# EAGLE library part DECA (library deca)
Deca board from Intel
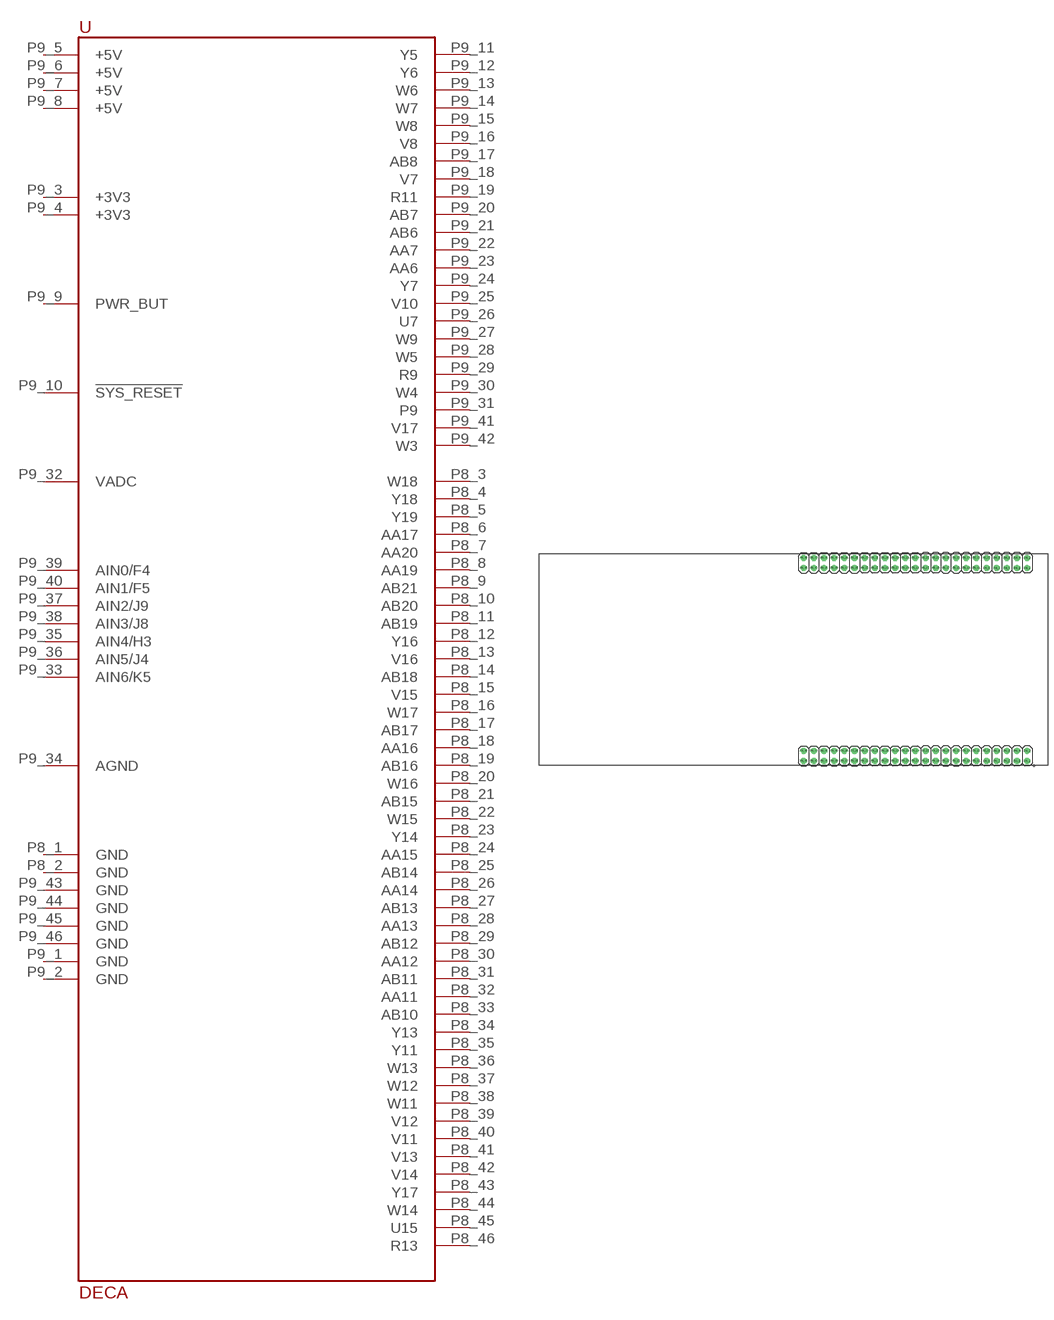
[diagram p0: symbol with the pads of DECA; footprint DECA]

Designator prefix -

## DECA  [DECA]
P8_1  GND
P8_2  GND
P8_3  W18
P8_4  Y18
P8_5  Y19
P8_6  AA17
P8_7  AA20
P8_8  AA19
P8_9  AB21
P8_10  AB20
P8_11  AB19
P8_12  Y16
P8_13  V16
P8_14  AB18
P8_15  V15
P8_16  W17
P8_17  AB17
P8_18  AA16
P8_19  AB16
P8_20  W16
P8_21  AB15
P8_22  W15
P8_23  Y14
P8_24  AA15
P8_25  AB14
P8_26  AA14
P8_27  AB13
P8_28  AA13
P8_29  AB12
P8_30  AA12
P8_31  AB11
P8_32  AA11
P8_33  AB10
P8_34  Y13
P8_35  Y11
P8_36  W13
P8_37  W12
P8_38  W11
P8_39  V12
P8_40  V11
P8_41  V13
P8_42  V14
P8_43  Y17
P8_44  W14
P8_45  U15
P8_46  R13
P9_1  GND
P9_2  GND
P9_3  +3V3
P9_4  +3V3
P9_5  +5V
P9_6  +5V
P9_7  +5V
P9_8  +5V
P9_9  PWR_BUT
P9_10  !SYS_RESET!
P9_11  Y5
P9_12  Y6
P9_13  W6
P9_14  W7
P9_15  W8
P9_16  V8
P9_17  AB8
P9_18  V7
P9_19  R11
P9_20  AB7
P9_21  AB6
P9_22  AA7
P9_23  AA6
P9_24  Y7
P9_25  V10
P9_26  U7
P9_27  W9
P9_28  W5
P9_29  R9
P9_30  W4
P9_31  P9
P9_32  VADC
P9_33  AIN6/K5
P9_34  AGND
P9_35  AIN4/H3
P9_36  AIN5/J4
P9_37  AIN2/J9
P9_38  AIN3/J8
P9_39  AIN0/F4
P9_40  AIN1/F5
P9_41  V17
P9_42  W3
P9_43  GND
P9_44  GND
P9_45  GND
P9_46  GND

## Footprint DECA (pad centres in mm)
PIN HEADER
drill 1.016 octagon: P8_1 27.94,22.86; P8_2 27.94,25.4; P8_3 25.4,22.86; P8_4 25.4,25.4; P8_5 22.86,22.86; P8_6 22.86,25.4; P8_7 20.32,22.86; P8_8 20.32,25.4; P8_9 17.78,22.86; P8_10 17.78,25.4; P8_11 15.24,22.86; P8_12 15.24,25.4; P8_13 12.7,22.86; P8_14 12.7,25.4; P8_15 10.16,22.86; P8_16 10.16,25.4; P8_17 7.62,22.86; P8_18 7.62,25.4; P8_19 5.08,22.86; P8_20 5.08,25.4; P8_21 2.54,22.86; P8_22 2.54,25.4; P8_23 0,22.86; P8_24 0,25.4; P8_25 -2.54,22.86; P8_26 -2.54,25.4; P8_27 -5.08,22.86; P8_28 -5.08,25.4; P8_29 -7.62,22.86; P8_30 -7.62,25.4; P8_31 -10.16,22.86; P8_32 -10.16,25.4; P8_33 -12.7,22.86; P8_34 -12.7,25.4; P8_35 -15.24,22.86; P8_36 -15.24,25.4; P8_37 -17.78,22.86; P8_38 -17.78,25.4; P8_39 -20.32,22.86; P8_40 -20.32,25.4; P8_41 -22.86,22.86; P8_42 -22.86,25.4; P8_43 -25.4,22.86; P8_44 -25.4,25.4; P8_45 -27.94,22.86; P8_46 -27.94,25.4; P9_1 27.94,-25.4; P9_2 27.94,-22.86; P9_3 25.4,-25.4; P9_4 25.4,-22.86; P9_5 22.86,-25.4; P9_6 22.86,-22.86; P9_7 20.32,-25.4; P9_8 20.32,-22.86; P9_9 17.78,-25.4; P9_10 17.78,-22.86; P9_11 15.24,-25.4; P9_12 15.24,-22.86; P9_13 12.7,-25.4; P9_14 12.7,-22.86; P9_15 10.16,-25.4; P9_16 10.16,-22.86; P9_17 7.62,-25.4; P9_18 7.62,-22.86; P9_19 5.08,-25.4; P9_20 5.08,-22.86; P9_21 2.54,-25.4; P9_22 2.54,-22.86; P9_23 0,-25.4; P9_24 0,-22.86; P9_25 -2.54,-25.4; P9_26 -2.54,-22.86; P9_27 -5.08,-25.4; P9_28 -5.08,-22.86; P9_29 -7.62,-25.4; P9_30 -7.62,-22.86; P9_31 -10.16,-25.4; P9_32 -10.16,-22.86; P9_33 -12.7,-25.4; P9_34 -12.7,-22.86; P9_35 -15.24,-25.4; P9_36 -15.24,-22.86; P9_37 -17.78,-25.4; P9_38 -17.78,-22.86; P9_39 -20.32,-25.4; P9_40 -20.32,-22.86; P9_41 -22.86,-25.4; P9_42 -22.86,-22.86; P9_43 -25.4,-25.4; P9_44 -25.4,-22.86; P9_45 -27.94,-25.4; P9_46 -27.94,-22.86